# Altium footprint library SM10B-NSHSS-TB.PcbLib: 1 footprints
Each footprint in its own frame and in the unit in brackets; x right, y up, seen from the top. Pads: shape width x height; smd on the part's side, far side on the other; paste and mask are expansions set on the pad; w line width, h text height; cw(c..) or ccw(c..) is an arc to the next point about the centre after c.
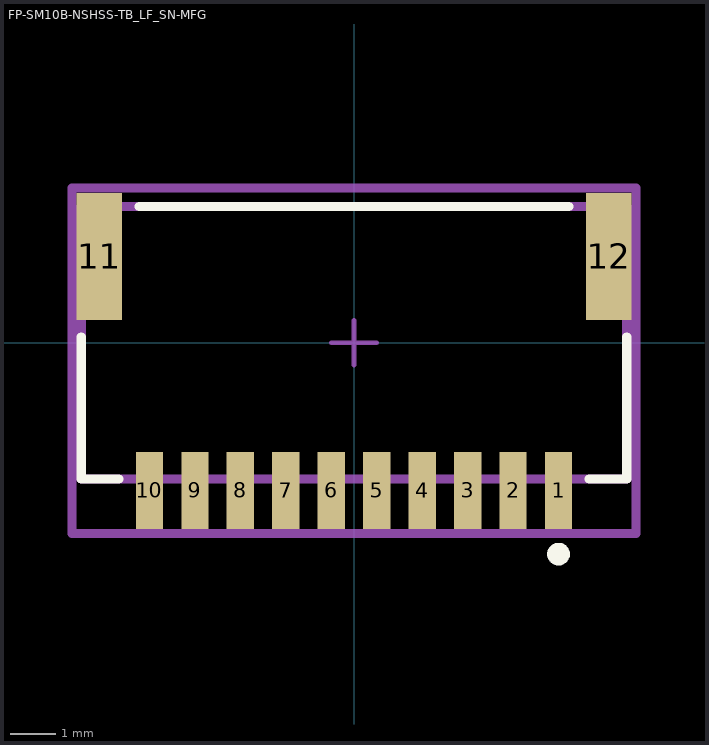
[diagram p0: the footprint, top view; thin cyan lines are the x and y axes]

## FP-SM10B-NSHSS-TB_LF_SN-MFG [mm]
pads (12):
  rect 0.6x1.7 smd paste+0 mask+0: 1(4.5,-3.25) 2(3.5,-3.25) 3(2.5,-3.25) 4(1.5,-3.25) 5(0.5,-3.25) 6(-0.5,-3.25) 7(-1.5,-3.25) 8(-2.5,-3.25) 9(-3.5,-3.25) 10(-4.5,-3.25)
  rect 1x2.8 smd paste+0 mask+0: 11(-5.6,1.9) 12(5.6,1.9)
Top Overlay:
  circle w0.25: c4.5,-4.65 r0.125
  lines w0.2: -6,0.125 -6,-3 -5.175,-3 ; -4.725,3 4.725,3 ; 5.175,-3 6,-3 6,0.125
Top Assembly:
  lines w0.2: -6.2,-4.2 -6.2,3.4 6.2,3.4 6.2,-4.2 -6.2,-4.2
  text ".Designator" at 0,-0.212 h1
Top 3D Body:
  lines w0.2: -6,-3 -6,3 6,3 6,-3 -6,-3
Top Courtyard:
  lines w0.2: -6.2,-4.2 -6.2,3.4 6.2,3.4 6.2,-4.2 -6.2,-4.2
Top Component Center:
  lines w0.1: -0.5,0 0.5,0 ; 0,-0.5 0,0.5
3D body "Conn_JST_SM10B-NSHSS-TB_LF_SN_eec.STEP": height 0.25, standoff 0, extent -6.2,-4.2 6.2,3.4